# Altium integrated library WD Communication Receiver.IntLib: 4 symbols
Pins are listed as number, name and electrical type; pins without a type are passive.

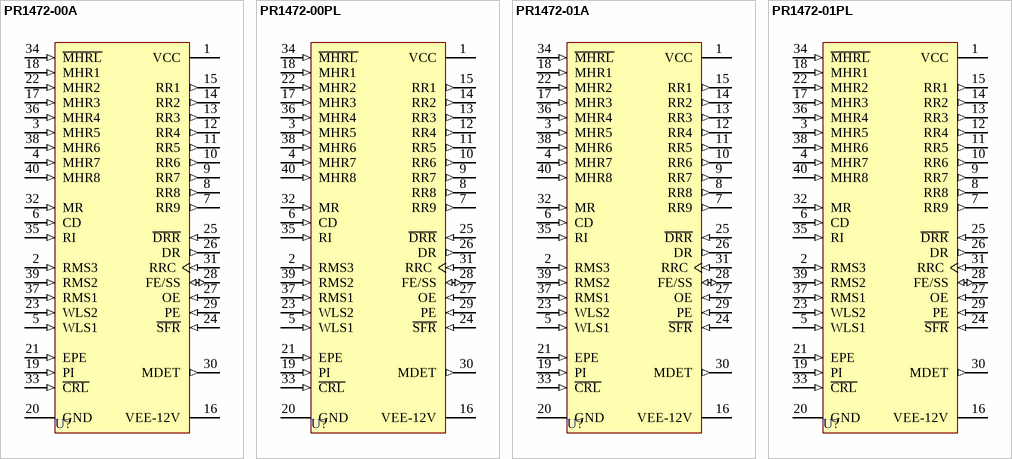
[diagram p0: symbols PR1472-00A to PR1472-01PL]

## PR1472-00A
designator U?
Programmable Synchronous and Asynchronous Receiver; PackageDocument: 1984; Published: 8-Jun-2000; LatestRevisionDate: 4-Mar-2005; LatestRevisionNote: Stylized 3D Model Added.; DatasheetDocument: 1984; PackageReference: A40; Publisher: Altium Limited; ComponentLink1Description: Manufacturer Link; ComponentLink1URL: http://www.wdc.com/
footprint A40 (DIP; 40 Leads; Row Spacing 15.24 mm; Pitch 2.54 mm)
3D model A40 (DIP; 40 Leads; Row Spacing 15.24 mm; Pitch 2.54 mm)
pins: 1 VCC (power), 2 RMS3 (in), 3 MHR5 (in), 4 MHR7 (in), 5 WLS1 (in), 6 CD (in), 7 RR9 (out), 8 RR8 (out), 9 RR7 (out), 10 RR6 (out), 11 RR5 (out), 12 RR4 (out), 13 RR3 (out), 14 RR2 (out), 15 RR1 (out), 16 VEE-12V (power), 17 MHR3 (in), 18 MHR1 (in), 19 PI (in), 20 GND (power), 21 EPE (in), 22 MHR2 (in), 23 WLS2 (in), 24 ~{SFR} (in), 25 ~{DRR} (in), 26 DR (out), 27 OE (in), 28 FE/SS (io), 29 PE (in), 30 MDET (out), 31 RRC (in), 32 MR (in), 33 ~{CRL} (in), 34 ~{MHRL} (in), 35 RI (in), 36 MHR4 (in), 37 RMS1 (in), 38 MHR6 (in), 39 RMS2 (in), 40 MHR8 (in)

## PR1472-00PL
designator U?
Programmable Synchronous and Asynchronous Receiver; PackageDocument: 1984; Published: 8-Jun-2000; LatestRevisionDate: 4-Mar-2005; LatestRevisionNote: Stylized 3D Model Added.; DatasheetDocument: 1984; PackageReference: PL40; Publisher: Altium Limited; ComponentLink1Description: Manufacturer Link; ComponentLink1URL: http://www.wdc.com/
footprint PL40 (DIP; 40 Leads; Row Spacing 15.24 mm; Pitch 2.54 mm)
3D model PL40 (DIP; 40 Leads; Row Spacing 15.24 mm; Pitch 2.54 mm)
pins: 1 VCC (power), 2 RMS3 (in), 3 MHR5 (in), 4 MHR7 (in), 5 WLS1 (in), 6 CD (in), 7 RR9 (out), 8 RR8 (out), 9 RR7 (out), 10 RR6 (out), 11 RR5 (out), 12 RR4 (out), 13 RR3 (out), 14 RR2 (out), 15 RR1 (out), 16 VEE-12V (power), 17 MHR3 (in), 18 MHR1 (in), 19 PI (in), 20 GND (power), 21 EPE (in), 22 MHR2 (in), 23 WLS2 (in), 24 ~{SFR} (in), 25 ~{DRR} (in), 26 DR (out), 27 OE (in), 28 FE/SS (io), 29 PE (in), 30 MDET (out), 31 RRC (in), 32 MR (in), 33 ~{CRL} (in), 34 ~{MHRL} (in), 35 RI (in), 36 MHR4 (in), 37 RMS1 (in), 38 MHR6 (in), 39 RMS2 (in), 40 MHR8 (in)

## PR1472-01A
designator U?
Programmable Synchronous and Asynchronous Receiver; PackageDocument: 1984; Published: 8-Jun-2000; LatestRevisionDate: 4-Mar-2005; LatestRevisionNote: Stylized 3D Model Added.; DatasheetDocument: 1984; PackageReference: A40; Publisher: Altium Limited; ComponentLink1Description: Manufacturer Link; ComponentLink1URL: http://www.wdc.com/
footprint A40 (DIP; 40 Leads; Row Spacing 15.24 mm; Pitch 2.54 mm)
3D model A40 (DIP; 40 Leads; Row Spacing 15.24 mm; Pitch 2.54 mm)
pins: 1 VCC (power), 2 RMS3 (in), 3 MHR5 (in), 4 MHR7 (in), 5 WLS1 (in), 6 CD (in), 7 RR9 (out), 8 RR8 (out), 9 RR7 (out), 10 RR6 (out), 11 RR5 (out), 12 RR4 (out), 13 RR3 (out), 14 RR2 (out), 15 RR1 (out), 16 VEE-12V (power), 17 MHR3 (in), 18 MHR1 (in), 19 PI (in), 20 GND (power), 21 EPE (in), 22 MHR2 (in), 23 WLS2 (in), 24 ~{SFR} (in), 25 ~{DRR} (in), 26 DR (out), 27 OE (in), 28 FE/SS (io), 29 PE (in), 30 MDET (out), 31 RRC (in), 32 MR (in), 33 ~{CRL} (in), 34 ~{MHRL} (in), 35 RI (in), 36 MHR4 (in), 37 RMS1 (in), 38 MHR6 (in), 39 RMS2 (in), 40 MHR8 (in)

## PR1472-01PL
designator U?
Programmable Synchronous and Asynchronous Receiver; PackageDocument: 1984; Published: 8-Jun-2000; LatestRevisionDate: 4-Mar-2005; LatestRevisionNote: Stylized 3D Model Added.; DatasheetDocument: 1984; PackageReference: PL40; Publisher: Altium Limited; ComponentLink1Description: Manufacturer Link; ComponentLink1URL: http://www.wdc.com/
footprint PL40 (DIP; 40 Leads; Row Spacing 15.24 mm; Pitch 2.54 mm)
3D model PL40 (DIP; 40 Leads; Row Spacing 15.24 mm; Pitch 2.54 mm)
pins: 1 VCC (power), 2 RMS3 (in), 3 MHR5 (in), 4 MHR7 (in), 5 WLS1 (in), 6 CD (in), 7 RR9 (out), 8 RR8 (out), 9 RR7 (out), 10 RR6 (out), 11 RR5 (out), 12 RR4 (out), 13 RR3 (out), 14 RR2 (out), 15 RR1 (out), 16 VEE-12V (power), 17 MHR3 (in), 18 MHR1 (in), 19 PI (in), 20 GND (power), 21 EPE (in), 22 MHR2 (in), 23 WLS2 (in), 24 ~{SFR} (in), 25 ~{DRR} (in), 26 DR (out), 27 OE (in), 28 FE/SS (io), 29 PE (in), 30 MDET (out), 31 RRC (in), 32 MR (in), 33 ~{CRL} (in), 34 ~{MHRL} (in), 35 RI (in), 36 MHR4 (in), 37 RMS1 (in), 38 MHR6 (in), 39 RMS2 (in), 40 MHR8 (in)